# Altium footprint library Components - 20.03.23 - 13.49.PcbLib: 1 footprints
Each footprint in its own frame and in the unit in brackets; x right, y up, seen from the top. Pads: shape width x height; smd on the part's side, far side on the other; paste and mask are expansions set on the pad; w line width, h text height; cw(c..) or ccw(c..) is an arc to the next point about the centre after c.
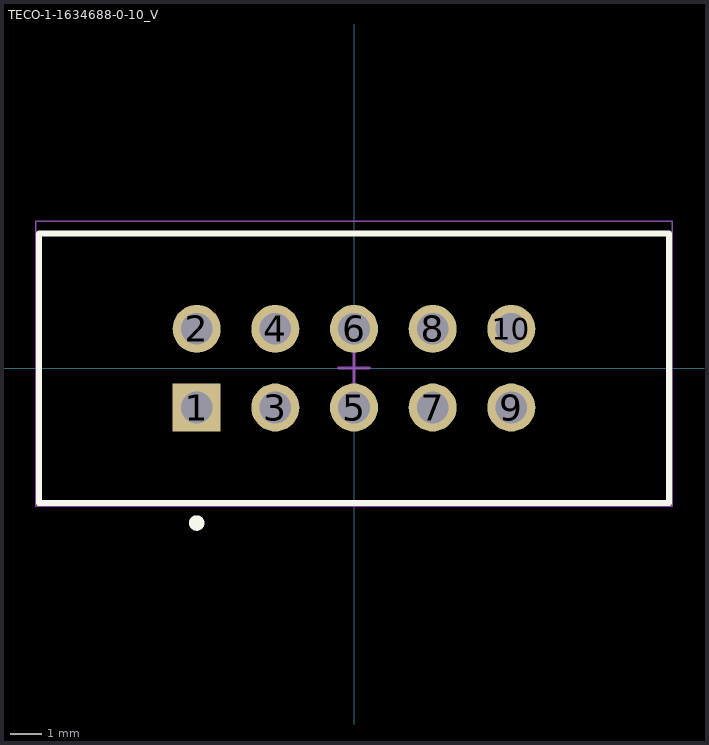
[diagram p0: the footprint, top view; thin cyan lines are the x and y axes]

## TECO-1-1634688-0-10_V [mm] "10-Pin Connector, Body 20.35x8.7mm, Pitch 2.54mm"
height 9.15
pads (10):
  rect 1.55x1.55 hole 1.02: 1(-5.08,-1.27)
  round 1.55 hole 1.02: 2(-5.08,1.27) 3(-2.54,-1.27) 4(-2.54,1.27) 5(0,-1.27) 6(0,1.27) 7(2.54,-1.27) 8(2.54,1.27) 9(5.08,-1.27) 10(5.08,1.27)
Top Overlay:
  circle w0.25: c-5.08,-5 r0.125
  lines w0.2: -10.175,-4.35 -10.175,4.35 10.175,4.35 10.175,-4.35 -10.175,-4.35
Mechanical 13:
  lines w0.1: -10.175,-4.35 -10.175,4.35 10.175,4.35 10.175,-4.35 -10.175,-4.35
Mechanical 15:
  lines w0.05: -10.275,-4.45 -10.275,4.75 10.275,4.75 10.275,-4.45 -10.275,-4.45
  lines w0.1: -0.5,0 0.5,0 ; 0,-0.5 0,0.5
3D body "c-1634688-10-c-3d.stp": height 9, standoff -3.15, extent -10.175,-4.35 10.175,4.65